# Altium footprint library LED0402.PcbLib: 5 footprints
Each footprint in its own frame and in the unit in brackets; x right, y up, seen from the top. Pads: shape width x height; smd on the part's side, far side on the other; paste and mask are expansions set on the pad; w line width, h text height; cw(c..) or ccw(c..) is an arc to the next point about the centre after c.
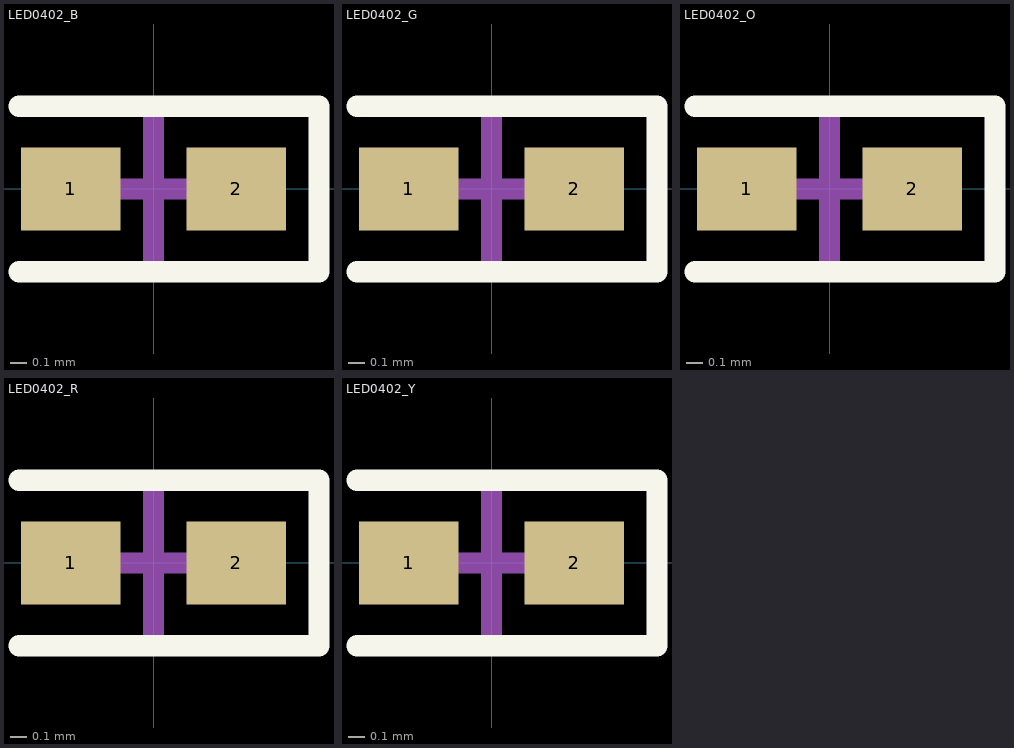
[diagram p0: the footprints below, top view; thin cyan lines are the x and y axes]

## LED0402_B [mm]
height 0.55
pads (2):
  rect 0.6x0.5 smd: 1(-0.5,0) 2(0.5,0)
Top Overlay:
  lines w0.127: -0.813,-0.5 1,-0.5 1,0.5 -0.813,0.5
Mechanical 15:
  lines w0.127: -0.475,0 0.475,0 ; 0,-0.475 0,0.475
3D body: height 0.45, standoff 0, extent -0.517,-0.25 0.493,0.25

## LED0402_G [mm]
height 0.55
pads (2):
  rect 0.6x0.5 smd: 1(-0.5,0) 2(0.5,0)
Top Overlay:
  lines w0.127: -0.813,-0.5 1,-0.5 1,0.5 -0.813,0.5
Mechanical 15:
  lines w0.127: -0.475,0 0.475,0 ; 0,-0.475 0,0.475
3D body: height 0.45, standoff 0, extent -0.517,-0.25 0.493,0.25

## LED0402_O [mm]
height 0.55
pads (2):
  rect 0.6x0.5 smd: 1(-0.5,0) 2(0.5,0)
Top Overlay:
  lines w0.127: -0.813,-0.5 1,-0.5 1,0.5 -0.813,0.5
Mechanical 15:
  lines w0.127: -0.475,0 0.475,0 ; 0,-0.475 0,0.475
3D body: height 0.45, standoff 0, extent -0.517,-0.25 0.493,0.25

## LED0402_R [mm]
height 0.55
pads (2):
  rect 0.6x0.5 smd: 1(-0.5,0) 2(0.5,0)
Top Overlay:
  lines w0.127: -0.813,-0.5 1,-0.5 1,0.5 -0.813,0.5
Mechanical 15:
  lines w0.127: -0.475,0 0.475,0 ; 0,-0.475 0,0.475
3D body: height 0.45, standoff 0, extent -0.517,-0.25 0.493,0.25

## LED0402_Y [mm]
height 0.55
pads (2):
  rect 0.6x0.5 smd: 1(-0.5,0) 2(0.5,0)
Top Overlay:
  lines w0.127: -0.813,-0.5 1,-0.5 1,0.5 -0.813,0.5
Mechanical 15:
  lines w0.127: -0.475,0 0.475,0 ; 0,-0.475 0,0.475
3D body: height 0.45, standoff 0, extent -0.517,-0.25 0.493,0.25